# Altium schematic symbol library Raspberry.SchLib: 3 symbols
Pins are listed as number, name and electrical type; pins without a type are passive.

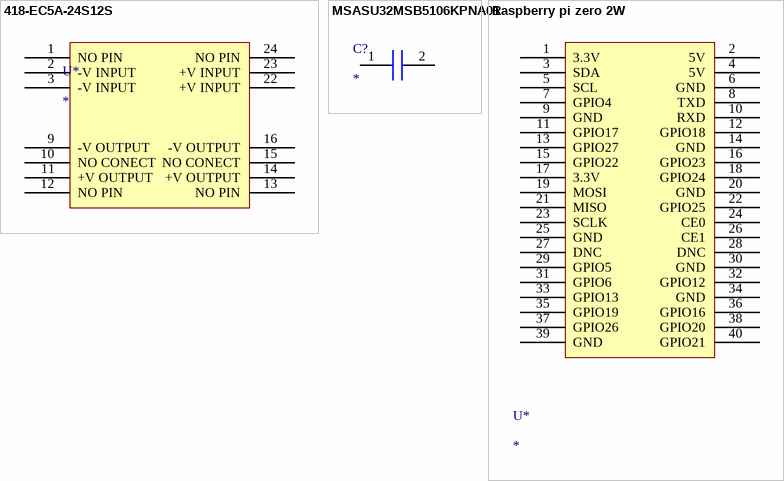
[diagram p0: symbols 418-EC5A-24S12S to Raspberry pi zero 2W]

## 418-EC5A-24S12S
designator U*
footprint 418-EC5A-24S12S
pins: 1 NO PIN, 2 -V INPUT, 3 -V INPUT, 9 -V OUTPUT, 10 NO CONECT, 11 +V OUTPUT, 12 NO PIN, 13 NO PIN, 14 +V OUTPUT, 15 NO CONECT, 16 -V OUTPUT, 22 +V INPUT, 23 +V INPUT, 24 NO PIN

## MSASU32MSB5106KPNA01
designator C?
Capacitor; Manufacturer_Name: TAIYO YUDEN; Manufacturer_Part_Number: MSASU32MSB5106KPNA01; Description: Multilayer Ceramic Capacitors MLCC - SMD/SMT 50V 10uF X5R 1210 10 %; Datasheet Link: https://4donline.ihs.com/images/VipMasterIC/IC/TAIY/TAIY-S-A0018972909/TAIY-S-A0018972909-1.pdf?hkey=61A2E4C270F0397D049F8F05BD4F1054; Height: 2.7mm
footprint CAPC3225X270N
pins: 1, 2

## Raspberry pi zero 2W
designator U*
footprint Raspberry Pi Zero 2 W
pins: 1 3.3V, 2 5V, 3 SDA, 4 5V, 5 SCL, 6 GND, 7 GPIO4, 8 TXD, 9 GND, 10 RXD, 11 GPIO17, 12 GPIO18, 13 GPIO27, 14 GND, 15 GPIO22, 16 GPIO23, 17 3.3V, 18 GPIO24, 19 MOSI, 20 GND, 21 MISO, 22 GPIO25, 23 SCLK, 24 CE0, 25 GND, 26 CE1, 27 DNC, 28 DNC, 29 GPIO5, 30 GND, 31 GPIO6, 32 GPIO12, 33 GPIO13, 34 GND, 35 GPIO19, 36 GPIO16, 37 GPIO26, 38 GPIO20, 39 GND, 40 GPIO21